# Altium integrated library U254-051N-4BH806.IntLib: 1 symbol
Pins are listed as number, name and electrical type; pins without a type are passive.

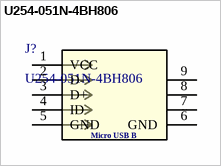
[diagram p0: symbol U254-051N-4BH806]

## U254-051N-4BH806
designator J?
USB - Micro B Female USB 2 5 SMD USB Connectors RoHS; Vendor: XKB Connectivity; Datasheet: https://datasheet.lcsc.com/lcsc/2107141638_XKB-Connectivity-U254-051N-4BH806_C319170.pdf; Manufacturer_Part_Number: U254-051N-4BH806; RefDes: RefDes; Type: DEV
footprint CONN_10103594-0001LF_AMP
pins: 1 VCC (power), 2 D-, 3 D+, 4 ID, 5 GND (power), 6 GND (power), 7 GND (power), 8 GND (power), 9 GND (power)
text: Micro USB B